# EAGLE library part LTC2943IDDTRPBF (library DubSat1 Components)
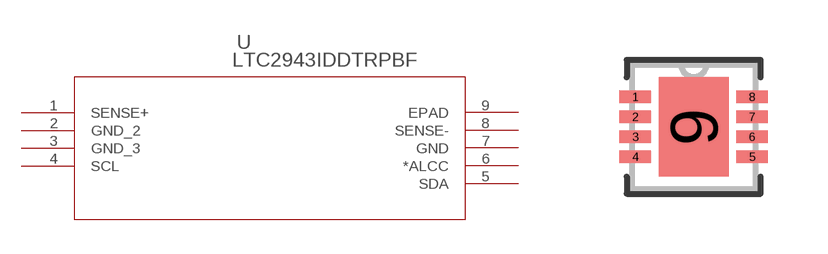
[diagram p32: symbol with the pads of DFN-8_DD; footprint DFN-8_DD]

Designator prefix U

## LTC2943IDDTRPBF (MANUFACTURER_PART_NUMBER: ltc2943idd#trpbf; VENDOR: Linear Technology)  [DFN-8_DD]
1  SENSE+  in
2  GND_2  pwr
3  GND_3  pwr
4  SCL  in
5  SDA
6  *ALCC
7  GND  pwr
8  SENSE-  in
9  EPAD  pas

## Footprint DFN-8_DD (pad centres in mm)
smd 0.787 x 0.305: 1 -1.46,0.75; 2 -1.46,0.25; 3 -1.46,-0.25; 4 -1.46,-0.75; 5 1.46,-0.75; 6 1.46,-0.25; 7 1.46,0.25; 8 1.46,0.75
smd 1.753 x 2.489: 9 0,0